# Altium footprint library TRANS_PQ3220.PcbLib: 1 footprints
Each footprint in its own frame and in the unit in brackets; x right, y up, seen from the top. Pads: shape width x height; smd on the part's side, far side on the other; paste and mask are expansions set on the pad; w line width, h text height; cw(c..) or ccw(c..) is an arc to the next point about the centre after c.
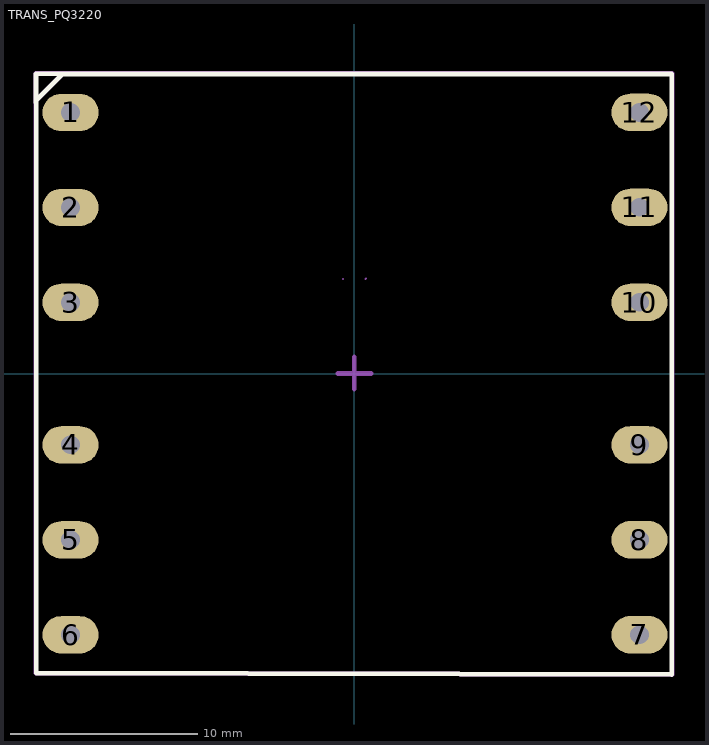
[diagram p0: the footprint, top view; thin cyan lines are the x and y axes]

## TRANS_PQ3220 [mm]
pads (12):
  oval 3x2 hole 1: 1(-15.183,13.966) 2(-15.183,8.886) 3(-15.183,3.806) 4(-15.183,-3.814) 5(-15.183,-8.894) 6(-15.183,-13.974) 7(15.25,-13.97) 8(15.25,-8.89) 9(15.25,-3.81) 10(15.25,3.81) 11(15.25,8.89) 12(15.25,13.97)
Top Overlay:
  lines w0.2: -15.493,16.043 -15.48,16.03
  lines w0.254: -17.03,14.49 -17.03,16.043 -15.493,16.043 ; -17.02,-16.017 -17.02,14.61 -15.6,16.03 16.98,16.03 16.98,-16.092 -17.02,-16.017
Top Assembly:
  lines w0.1: 0.6,5.065 0.635,5.1 ; -0.6,5.05 -0.6,5.05
  lines w0.2: -17.03,14.63 -17.01,14.63 ; -15.6,16.04 -15.6,16.05
  lines w0.254: -17.01,14.63 -15.6,16.04 ; 16.92,-16.095 -17.04,-16.02 -17.04,16.05 -17.006,16.05 17,16.05 17,-16.092
  text "'.Designator'" at -0.85,-0.375 h0.7
Top TopCourtyard/BotCourtyard (Mech15):
  lines w0.254: -0.893,0 0,0 ; -0.011,-0.827 -0.011,0.055 ; 0,0.882 0,0 ; 0.893,0 0,0
3D body "User Library-PQ3220.STEP": height 24.1, standoff -2.5, extent -16.959,-16.1 16.959,16.1